# EAGLE library part 690_357_28_20_76 (library SHC)
MM MALE SMT CONNECTOR WITHOUT LATCH AND WITHOUT POLARIZATION
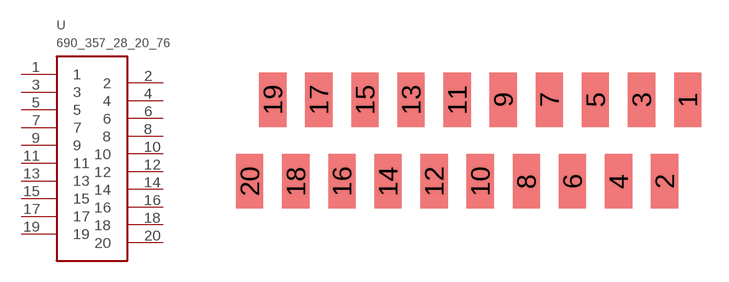
[diagram p18: symbol with the pads of 690_357_28_20_76; footprint 690_357_28_20_76]

Designator prefix -

## 690_357_28_20_76  [690_357_28_20_76]
1  1
2  2
3  3
4  4
5  5
6  6
7  7
8  8
9  9
10  10
11  11
12  12
13  13
14  14
15  15
16  16
17  17
18  18
19  19
20  20

## Footprint 690_357_28_20_76 (pad centres in mm)
smd 1.5 x 3: 1 12.93,2.46; 2 11.66,-2.04; 3 10.39,2.46; 4 9.12,-2.04; 5 7.85,2.46; 6 6.58,-2.04; 7 5.31,2.46; 8 4.04,-2.04; 9 2.77,2.46; 10 1.5,-2.04; 11 0.23,2.46; 12 -1.04,-2.04; 13 -2.31,2.46; 14 -3.58,-2.04; 15 -4.85,2.46; 16 -6.12,-2.04; 17 -7.39,2.46; 18 -8.66,-2.04; 19 -9.93,2.46; 20 -11.2,-2.04